# Altium footprint library Tiristor Triac.PcbLib: 18 footprints (part 1 of 2)
Each footprint in its own frame and in the unit in brackets; x right, y up, seen from the top. Pads: shape width x height; smd on the part's side, far side on the other; paste and mask are expansions set on the pad; w line width, h text height; cw(c..) or ccw(c..) is an arc to the next point about the centre after c.
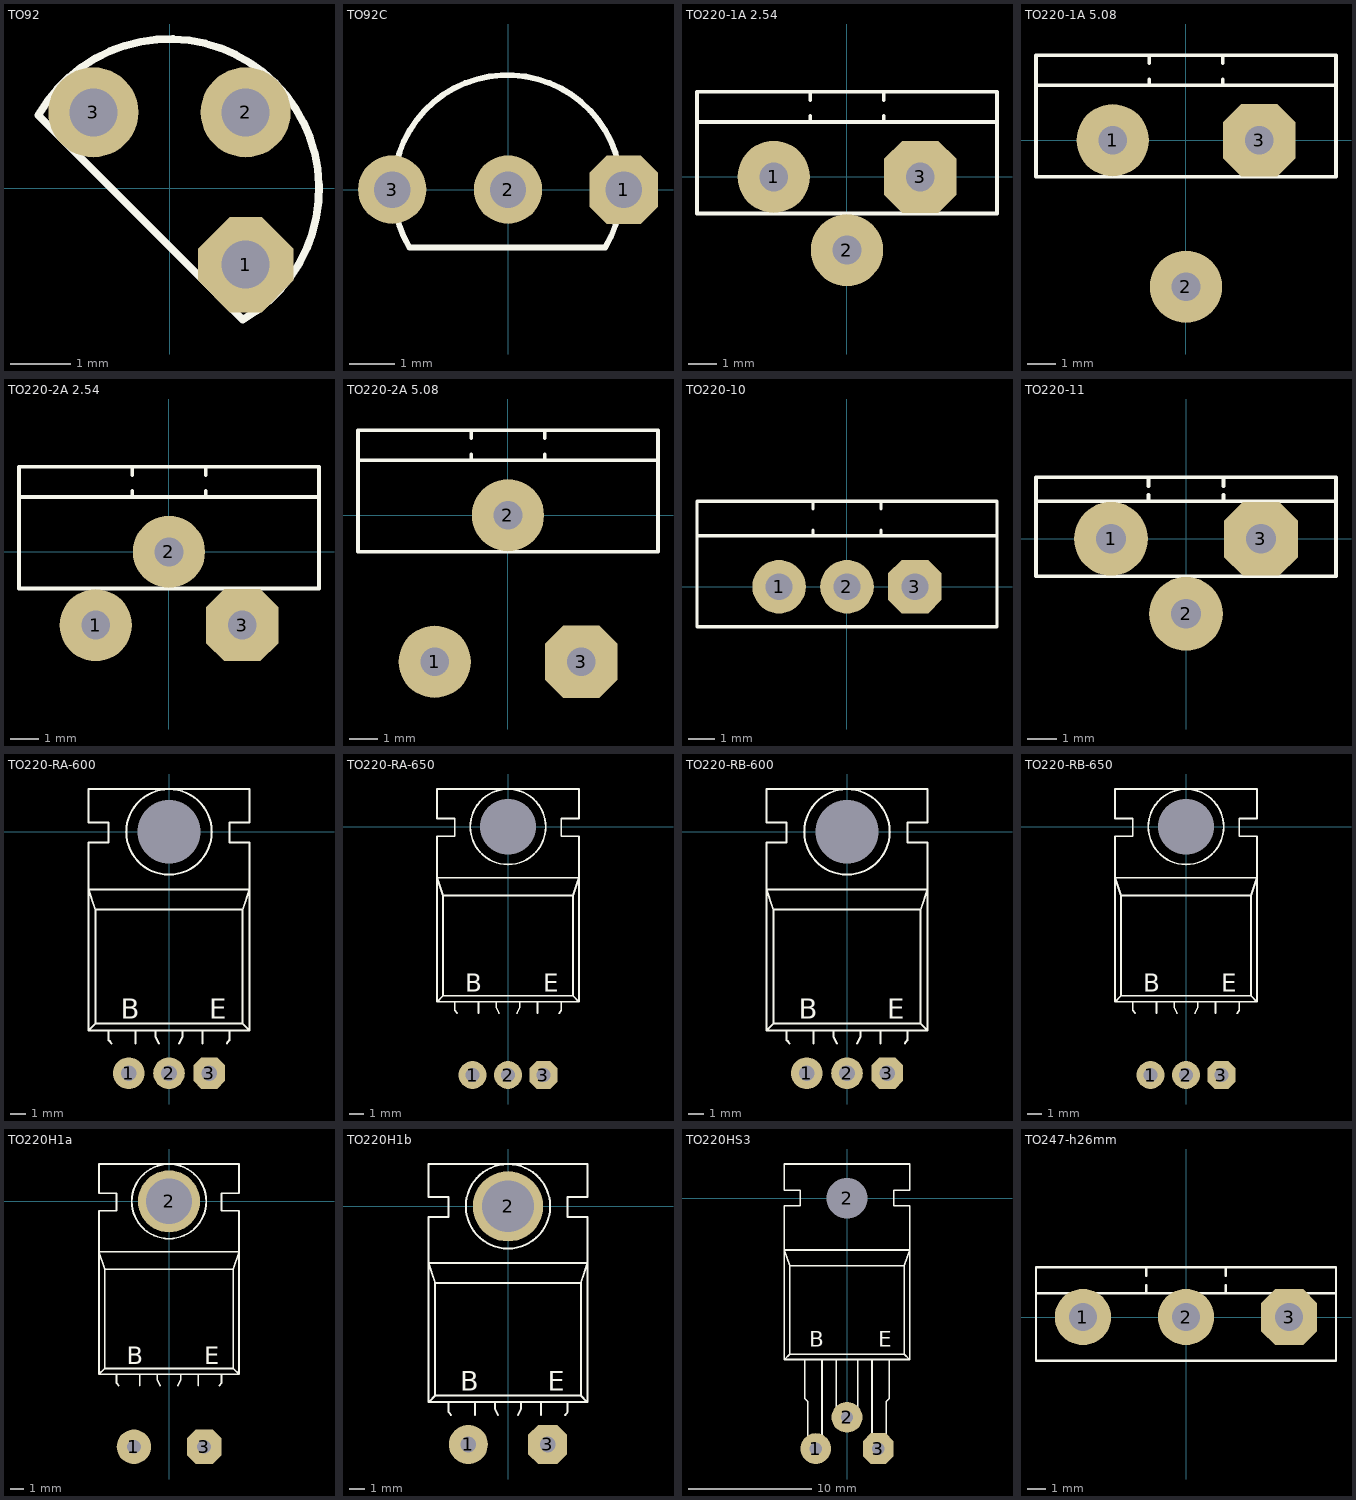
[diagram p0: the footprints below, top view; thin cyan lines are the x and y axes]

## TO92 [mm]
pads (3):
  oct 1.5x1.5 hole 0.8 rot 135: 1(1.27,-1.27)
  round 1.5 hole 0.8: 2(1.27,1.27) 3(-1.27,1.27)
TopOverlay:
  lines w0.127: -2.185,1.221 cw(c-0.009,-0.009) 1.221,-2.185 -2.185,1.221
3D body: height 8, standoff -3, extent -2.395,-2.389 2.395,2.4

## TO92C [mm]
pads (3):
  oct 1.5x1.5 hole 0.8: 1(2.54,0)
  round 1.5 hole 0.8: 2(0,0) 3(-2.54,0)
TopOverlay:
  lines w0.127: -2.159,-1.27 cw(c-0.013,0.012) 2.133,-1.27 -2.159,-1.27
3D body: height 8, standoff -3.02, extent -2.787,-1.517 2.787,2.413

## TO220-1A 2.54 [mm]
pads (3):
  round 2.5 hole 1: 1(-2.54,0) 2(0,-2.54)
  oct 2.5x2.5 hole 1: 3(2.54,0)
TopOverlay:
  lines w0.127: -5.2,1.905 5.2,1.905 ; -1.27,1.905 -1.27,2.117 ; -1.27,2.667 -1.27,2.921 ; 1.27,1.905 1.27,2.117 ; 1.27,2.667 1.27,2.921 ; -5.2,-1.27 -5.2,2.95 5.2,2.95 5.2,-1.27 -5.2,-1.27
3D body: height 23.29, standoff -3.87, extent -5.2,-2.791 5.2,2.95

## TO220-1A 5.08 [mm]
pads (3):
  round 2.5 hole 1: 1(-2.54,0) 2(0,-5.08)
  oct 2.5x2.5 hole 1: 3(2.54,0)
TopOverlay:
  lines w0.127: -5.2,1.905 5.2,1.905 ; -1.27,1.905 -1.27,2.117 ; -1.27,2.667 -1.27,2.921 ; 1.27,1.905 1.27,2.117 ; 1.27,2.667 1.27,2.921 ; -5.2,-1.27 5.2,-1.27 5.2,2.95 -5.2,2.95 -5.2,-1.27
3D body: height 23.29, standoff -2.41, extent -5.2,-5.331 5.2,2.95

## TO220-2A 2.54 [mm]
pads (3):
  round 2.5 hole 1: 1(-2.54,-2.54) 2(0,0)
  oct 2.5x2.5 hole 1: 3(2.54,-2.54)
TopOverlay:
  lines w0.127: -5.2,1.905 5.2,1.905 ; -1.27,1.905 -1.27,2.117 ; -1.27,2.667 -1.27,2.921 ; 1.27,1.905 1.27,2.117 ; 1.27,2.667 1.27,2.921 ; -5.2,-1.27 -5.2,2.95 5.2,2.95 5.2,-1.27 -5.2,-1.27
3D body: height 23.29, standoff -3.87, extent -5.2,-2.791 5.2,2.95

## TO220-2A 5.08 [mm]
pads (3):
  round 2.5 hole 1: 1(-2.54,-5.08) 2(0,0)
  oct 2.5x2.5 hole 1: 3(2.54,-5.08)
TopOverlay:
  lines w0.127: -5.2,1.905 5.2,1.905 ; -1.27,1.905 -1.27,2.117 ; -1.27,2.667 -1.27,2.921 ; 1.27,1.905 1.27,2.117 ; 1.27,2.667 1.27,2.921 ; -5.2,-1.27 5.2,-1.27 5.2,2.95 -5.2,2.95 -5.2,-1.27
3D body: height 23.29, standoff -2.41, extent -5.2,-5.331 5.2,2.95

## TO220-10 [mm]
pads (3):
  round 2 hole 1: 1(-2.54,0) 2(0,0)
  oct 2x2 hole 1: 3(2.54,0)
TopOverlay:
  lines w0.127: -5.588,1.905 5.588,1.905 ; -1.27,1.905 -1.27,2.117 ; -1.27,2.921 -1.27,3.175 ; 1.27,1.905 1.27,2.117 ; 1.27,2.921 1.27,3.175 ; -5.606,-1.495 5.607,-1.495 5.607,3.195 -5.606,3.195 -5.606,-1.495
3D body: height 21.33, standoff -3.05, extent -5.606,-1.495 5.607,3.195

## TO220-11 [mm]
pads (3):
  round 2.5 hole 1: 1(-2.54,0) 2(0,-2.54)
  oct 2.5x2.5 hole 1: 3(2.54,0)
TopOverlay:
  lines w0.127: -1.27,1.27 -1.27,1.482 ; -1.27,1.778 -1.27,2.032 ; 1.27,1.27 1.27,1.482 ; 1.27,1.778 1.27,2.032 ; -5.08,1.27 5.08,1.27 ; -5.08,1.27 -5.08,-1.27 5.08,-1.27 5.08,1.27 ; -5.08,1.27 -5.08,2.085 5.08,2.085 5.08,1.27
3D body: height 22.98, standoff -2.33, extent -5.08,-2.845 5.08,2.085

## TO220-RA-600 [mm]
pads (4):
  round 0 hole 4 unplated: 0(0,0)
  round 2 hole 1: 1(-2.54,-15.24) 2(0,-15.24)
  oct 2x2 hole 1: 3(2.54,-15.24)
TopOverlay:
  circle w0.127: c0,0 r2.7
  lines w0.127: -3.81,-13.166 -3.81,-12.531 ; -3.762,-13.198 -3.647,-13.359 ; -2.117,-13.359 -2.117,-12.531 ; -0.847,-12.531 -0.847,-12.954 -0.635,-13.359 ; 0.635,-13.359 0.847,-12.954 0.847,-12.531 ; 2.117,-13.359 2.117,-12.531 ; 3.655,-13.359 3.818,-13.142 ; 3.81,-13.166 3.81,-12.531 ; -5.08,-12.531 -5.08,-0.677 -3.81,-0.677 -3.81,0.593 -5.08,0.593 -5.08,2.709 5.08,2.709 5.08,0.593 3.81,0.593 3.81,-0.677 5.08,-0.677 5.08,-12.531 ; -5.08,-12.531 5.08,-12.531 ; -5.08,-12.531 -4.657,-12.107 ; -4.657,-12.107 -4.657,-4.911 ; -4.657,-12.107 4.657,-12.107 ; -4.657,-4.911 -5.08,-3.641 5.08,-3.641 4.657,-4.911 ; -4.657,-4.911 4.657,-4.911 ; 4.657,-12.107 4.657,-4.911 ; 4.657,-12.107 5.08,-12.531
  text "E" at 2.54,-11.811 h1.27
  text "B" at -3.048,-11.811 h1.27
3D body: height 4.45, standoff -1.79, extent -5.08,-15.43 5.08,2.54

## TO220-RA-650 [mm]
pads (4):
  round 0 hole 4 unplated: 0(0,0)
  round 2 hole 1: 1(-2.54,-17.78) 2(0,-17.78)
  oct 2x2 hole 1: 3(2.54,-17.78)
TopOverlay:
  circle w0.127: c0,0 r2.7
  lines w0.127: -3.81,-13.166 -3.81,-12.531 ; -3.762,-13.198 -3.647,-13.359 ; -2.117,-13.359 -2.117,-12.531 ; -0.847,-12.531 -0.847,-12.954 -0.635,-13.359 ; 0.635,-13.359 0.847,-12.954 0.847,-12.531 ; 2.117,-13.359 2.117,-12.531 ; 3.655,-13.359 3.818,-13.142 ; 3.81,-13.166 3.81,-12.531 ; -5.08,-12.531 -5.08,-0.677 -3.81,-0.677 -3.81,0.593 -5.08,0.593 -5.08,2.709 5.08,2.709 5.08,0.593 3.81,0.593 3.81,-0.677 5.08,-0.677 5.08,-12.531 ; -5.08,-12.531 5.08,-12.531 ; -5.08,-12.531 -4.657,-12.107 ; -4.657,-12.107 -4.657,-4.911 ; -4.657,-12.107 4.657,-12.107 ; -4.657,-4.911 -5.08,-3.641 5.08,-3.641 4.657,-4.911 ; -4.657,-4.911 4.657,-4.911 ; 4.657,-12.107 4.657,-4.911 ; 4.657,-12.107 5.08,-12.531
  text "E" at 2.54,-11.811 h1.27
  text "B" at -3.048,-11.811 h1.27
3D body: height 4.45, standoff -1.79, extent -5.08,-17.97 5.08,2.58

## TO220-RB-600 [mm]
pads (4):
  round 0 hole 4 unplated: 0(0,0)
  round 2 hole 1: 1(-2.54,-15.24) 2(0,-15.24)
  oct 2x2 hole 1: 3(2.54,-15.24)
TopOverlay:
  circle w0.127: c0,0 r2.7
  lines w0.127: -3.81,-13.166 -3.81,-12.531 ; -3.762,-13.198 -3.647,-13.359 ; -2.117,-13.359 -2.117,-12.531 ; -0.847,-12.531 -0.847,-12.954 -0.635,-13.359 ; 0.635,-13.359 0.847,-12.954 0.847,-12.531 ; 2.117,-13.359 2.117,-12.531 ; 3.655,-13.359 3.818,-13.142 ; 3.81,-13.166 3.81,-12.531 ; -5.08,-12.531 -4.657,-12.107 ; -5.08,-12.531 5.08,-12.531 ; -5.08,-12.531 -5.08,-0.677 -3.81,-0.677 -3.81,0.593 -5.08,0.593 -5.08,2.709 5.08,2.709 5.08,0.593 3.81,0.593 3.81,-0.677 5.08,-0.677 5.08,-12.531 ; -4.657,-12.107 4.657,-12.107 ; -4.657,-12.107 -4.657,-4.911 ; -4.657,-4.911 4.657,-4.911 ; -4.657,-4.911 -5.08,-3.641 5.08,-3.641 4.657,-4.911 ; 4.657,-12.107 5.08,-12.531 ; 4.657,-12.107 4.657,-4.911
  text "B" at -3.048,-11.811 h1.27
  text "E" at 2.54,-11.811 h1.27
3D body: height 2.32, standoff -5, extent -5.08,-15.43 5.08,2.54

## TO220-RB-650 [mm]
pads (4):
  round 0 hole 4 unplated: 0(0,0)
  round 2 hole 1: 1(-2.54,-17.78) 2(0,-17.78)
  oct 2x2 hole 1: 3(2.54,-17.78)
TopOverlay:
  circle w0.127: c0,0 r2.7
  lines w0.127: -3.81,-13.166 -3.81,-12.531 ; -3.762,-13.198 -3.647,-13.359 ; -2.117,-13.359 -2.117,-12.531 ; -0.847,-12.531 -0.847,-12.954 -0.635,-13.359 ; 0.635,-13.359 0.847,-12.954 0.847,-12.531 ; 2.117,-13.359 2.117,-12.531 ; 3.655,-13.359 3.818,-13.142 ; 3.81,-13.166 3.81,-12.531 ; -5.08,-12.531 -5.08,-0.677 -3.81,-0.677 -3.81,0.593 -5.08,0.593 -5.08,2.709 5.08,2.709 5.08,0.593 3.81,0.593 3.81,-0.677 5.08,-0.677 5.08,-12.531 ; -5.08,-12.531 5.08,-12.531 ; -5.08,-12.531 -4.657,-12.107 ; -4.657,-12.107 -4.657,-4.911 ; -4.657,-12.107 4.657,-12.107 ; -4.657,-4.911 -5.08,-3.641 5.08,-3.641 4.657,-4.911 ; -4.657,-4.911 4.657,-4.911 ; 4.657,-12.107 4.657,-4.911 ; 4.657,-12.107 5.08,-12.531
  text "E" at 2.54,-11.811 h1.27
  text "B" at -3.048,-11.811 h1.27
3D body: height 1.72, standoff -5, extent -5.08,-17.97 5.08,2.58

## TO220H1a [mm]
pads (3):
  round 2.5 hole 1: 1(-2.54,-17.78)
  round 4.5 hole 3.3: 2(0,0)
  oct 2.5x2.5 hole 1: 3(2.54,-17.78)
TopOverlay:
  circle w0.127: c0,0 r2.7
  lines w0.127: -3.81,-13.166 -3.81,-12.531 ; -3.762,-13.198 -3.647,-13.359 ; -2.117,-13.359 -2.117,-12.531 ; -0.847,-12.531 -0.847,-12.954 -0.635,-13.359 ; 0.635,-13.359 0.847,-12.954 0.847,-12.531 ; 2.117,-13.359 2.117,-12.531 ; 3.655,-13.359 3.818,-13.142 ; 3.81,-13.166 3.81,-12.531 ; -5.08,-12.531 -5.08,-0.677 -3.81,-0.677 -3.81,0.593 -5.08,0.593 -5.08,2.709 5.08,2.709 5.08,0.593 3.81,0.593 3.81,-0.677 5.08,-0.677 5.08,-12.531 ; -5.08,-12.531 5.08,-12.531 ; -5.08,-12.531 -4.657,-12.107 ; -4.657,-12.107 -4.657,-4.911 ; -4.657,-12.107 4.657,-12.107 ; -4.657,-4.911 -5.08,-3.641 5.08,-3.641 4.657,-4.911 ; -4.657,-4.911 4.657,-4.911 ; 4.657,-12.107 4.657,-4.911 ; 4.657,-12.107 5.08,-12.531
  text "E" at 2.54,-11.811 h1.27
  text "B" at -3.048,-11.811 h1.27
3D body: height 4.45, standoff -1.79, extent -5.08,-17.88 5.08,2.54

## TO220H1b [mm]
pads (3):
  round 2.5 hole 1: 1(-2.54,-15.24)
  round 4.5 hole 3.3: 2(0,0)
  oct 2.5x2.5 hole 1: 3(2.54,-15.24)
TopOverlay:
  circle w0.127: c0,0 r2.7
  lines w0.127: -3.81,-13.166 -3.81,-12.531 ; -3.762,-13.198 -3.647,-13.359 ; -2.117,-13.359 -2.117,-12.531 ; -0.847,-12.531 -0.847,-12.954 -0.635,-13.359 ; 0.635,-13.359 0.847,-12.954 0.847,-12.531 ; 2.117,-13.359 2.117,-12.531 ; 3.655,-13.359 3.818,-13.142 ; 3.81,-13.166 3.81,-12.531 ; -5.08,-12.531 -5.08,-0.677 -3.81,-0.677 -3.81,0.593 -5.08,0.593 -5.08,2.709 5.08,2.709 5.08,0.593 3.81,0.593 3.81,-0.677 5.08,-0.677 5.08,-12.531 ; -5.08,-12.531 5.08,-12.531 ; -5.08,-12.531 -4.657,-12.107 ; -4.657,-12.107 -4.657,-4.911 ; -4.657,-12.107 4.657,-12.107 ; -4.657,-4.911 -5.08,-3.641 5.08,-3.641 4.657,-4.911 ; -4.657,-4.911 4.657,-4.911 ; 4.657,-12.107 4.657,-4.911 ; 4.657,-12.107 5.08,-12.531
  text "E" at 2.54,-11.811 h1.27
  text "B" at -3.048,-11.811 h1.27
3D body: height 4.45, standoff -1.79, extent -5.105,-15.58 5.055,2.54

## TO220HS3 [mm]
pads (4):
  round 2.5 hole 1: 1(-2.54,-20.32) 2(0,-17.78)
  round 2.5 hole 3.3: 2(0,0)
  oct 2.5x2.5 hole 1: 3(2.54,-20.32)
TopOverlay:
  lines w0.127: -3.429,-13.081 -3.429,-16.256 -3.175,-16.51 -3.175,-20.32 -2.032,-20.32 -2.032,-13.081 ; -0.889,-13.081 -0.889,-17.78 0.889,-17.78 0.889,-13.081 ; 2.032,-13.081 2.032,-20.32 3.175,-20.32 3.175,-16.51 3.429,-16.256 3.429,-13.081 ; -5.08,-13.081 -4.657,-12.658 ; -5.08,-13.081 5.08,-13.081 ; -5.08,-13.081 -5.08,-0.593 -3.81,-0.593 -3.81,0.677 -5.08,0.677 -5.08,2.794 5.08,2.794 5.08,0.677 3.81,0.677 3.81,-0.593 5.08,-0.593 5.08,-3.133 5.08,-13.081 ; -4.657,-12.658 4.657,-12.658 ; -4.657,-12.658 -4.657,-5.461 ; -4.657,-5.461 4.657,-5.461 ; -4.657,-5.461 -5.08,-4.191 5.08,-4.191 4.657,-5.461 ; 4.657,-12.658 4.657,-5.461 ; 4.657,-12.658 5.08,-13.081
  text "B" at -3.048,-12.065 h1.27
  text "E" at 2.54,-12.065 h1.27
3D body: height 4.45, standoff -1.79, extent -5.08,-17.97 5.08,2.45

## TO247-h26mm [mm]
pads (3):
  round 3 hole 1.5: 1(-5.5,0) 2(0,0)
  oct 3x3 hole 1.5: 3(5.5,0)
TopOverlay:
  lines w0.127: -8,1.27 8,1.27 ; -2.117,1.27 -2.117,1.693 ; -2.117,2.2 -2.117,2.667 ; 2.117,1.27 2.117,1.693 ; 2.117,2.2 2.117,2.667 ; -8,-2.34 8,-2.34 8,2.667 -8,2.667 -8,-2.34
3D body: height 32.2, standoff -2.8, extent -8,-2.34 8,2.66